# Altium integrated library QSE-020-01-XXX-D-A-L.IntLib: 1 symbol
Pins are listed as number, name and electrical type; pins without a type are passive.

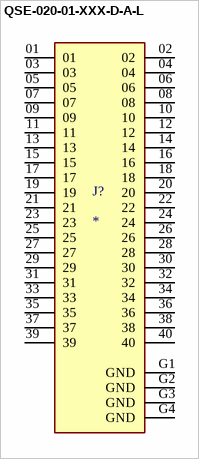
[diagram p0: symbol QSE-020-01-XXX-D-A-L]

## QSE-020-01-XXX-D-A-L
designator J?
40 Position Connector Receptacle, Center Strip Contacts Surface Mount Gold; MF: Samtec; MP: QSE-020-01-F-D-A-L; Price: None; Check_prices: https://www.snapeda.com/parts/QSE-020-01-F-D-A-L/Samtec/view-part/3269161/?ref=eda; Purchase-URL: https://pricing.snapeda.com/search/part/QSE-020-01-F-D-A-L/?ref=eda; SnapEDA_Link: https://www.snapeda.com/parts/QSE-020-01-F-D-A-L/Samtec/view-part/3269161/?ref=snap; Package: None; Availability: Bad; Value: *
footprint SAMTEC_QSE-020-01-XXX-D-A-L
pins: 01, 02, 03, 04, 05, 06, 07, 08, 09, 10, 11, 12, 13, 14, 15, 16, 17, 18, 19, 20, 21, 22, 23, 24, 25, 26, 27, 28, 29, 30, 31, 32, 33, 34, 35, 36, 37, 38, 39, 40, G1 GND (power), G2 GND (power), G3 GND (power), G4 GND (power)